# Altium footprint library UFBGA121N0.50P11X11_6.0X6.0X0.6-121_121.PcbLib: 1 footprints
Each footprint in its own frame and in the unit in brackets; x right, y up, seen from the top. Pads: shape width x height; smd on the part's side, far side on the other; paste and mask are expansions set on the pad; w line width, h text height; cw(c..) or ccw(c..) is an arc to the next point about the centre after c.
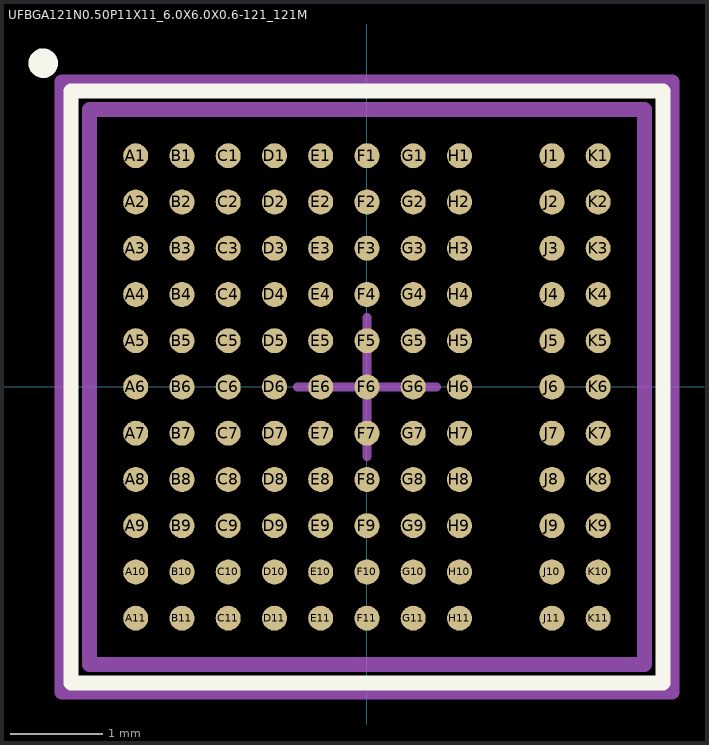
[diagram p0: the footprint, top view; thin cyan lines are the x and y axes]

## UFBGA121N0.50P11X11_6.0X6.0X0.6-121_121M [mm] "UFBGA 121 6x6x0.6 P 0.5 mm"
height 0.6
pads (110):
  round 0.27 smd: A1(-2.5,2.5) A2(-2.5,2) A3(-2.5,1.5) A4(-2.5,1) A5(-2.5,0.5) A6(-2.5,0) A7(-2.5,-0.5) A8(-2.5,-1) A9(-2.5,-1.5) A10(-2.5,-2) A11(-2.5,-2.5) B1(-2,2.5) B2(-2,2) B3(-2,1.5) B4(-2,1) B5(-2,0.5) B6(-2,0) B7(-2,-0.5) B8(-2,-1) B9(-2,-1.5) B10(-2,-2) B11(-2,-2.5) C1(-1.5,2.5) C2(-1.5,2) C3(-1.5,1.5) C4(-1.5,1) C5(-1.5,0.5) C6(-1.5,0) C7(-1.5,-0.5) C8(-1.5,-1) C9(-1.5,-1.5) C10(-1.5,-2) C11(-1.5,-2.5) D1(-1,2.5) D2(-1,2) D3(-1,1.5) D4(-1,1) D5(-1,0.5) D6(-1,0) D7(-1,-0.5) D8(-1,-1) D9(-1,-1.5) D10(-1,-2) D11(-1,-2.5) E1(-0.5,2.5) E2(-0.5,2) E3(-0.5,1.5) E4(-0.5,1) E5(-0.5,0.5) E6(-0.5,0) E7(-0.5,-0.5) E8(-0.5,-1) E9(-0.5,-1.5) E10(-0.5,-2) E11(-0.5,-2.5) F1(0,2.5) F2(0,2) F3(0,1.5) F4(0,1) F5(0,0.5) F6(0,0) F7(0,-0.5) F8(0,-1) F9(0,-1.5) F10(0,-2) F11(0,-2.5) G1(0.5,2.5) G2(0.5,2) G3(0.5,1.5) G4(0.5,1) G5(0.5,0.5) G6(0.5,0) G7(0.5,-0.5) G8(0.5,-1) G9(0.5,-1.5) G10(0.5,-2) G11(0.5,-2.5) H1(1,2.5) H2(1,2) H3(1,1.5) H4(1,1) H5(1,0.5) H6(1,0) H7(1,-0.5) H8(1,-1) H9(1,-1.5) H10(1,-2) H11(1,-2.5) J1(2,2.5) J2(2,2) J3(2,1.5) J4(2,1) J5(2,0.5) J6(2,0) J7(2,-0.5) J8(2,-1) J9(2,-1.5) J10(2,-2) J11(2,-2.5) K1(2.5,2.5) K2(2.5,2) K3(2.5,1.5) K4(2.5,1) K5(2.5,0.5) K6(2.5,0) K7(2.5,-0.5) K8(2.5,-1) K9(2.5,-1.5) K10(2.5,-2) K11(2.5,-2.5)
Top Overlay:
  circle w0.16: c-3.5,3.5 r0.08
  lines w0.16: -3.2,-3.2 3.2,-3.2 3.2,3.2 -3.2,3.2 -3.2,-3.2
Top Component Center:
  lines w0.1: -0.75,0 0.75,0 ; 0,-0.75 0,0.75
Top Courtyard:
  lines w0.16: -3.3,-3.3 3.3,-3.3 3.3,3.3 -3.3,3.3 -3.3,-3.3
Top Assembly:
  lines w0.16: -3,-3 3,-3 3,3 -3,3 -3,-3
3D body "UFBGA121N0.50P11X11_6.0X6.0X0.6-121_121M.STEP": height 0.6, standoff 0, extent -3,-3 3,3